# EAGLE library part TC4469 (library ads4)
Microchip TC4469 Logic-Input CMOS Quad Driver
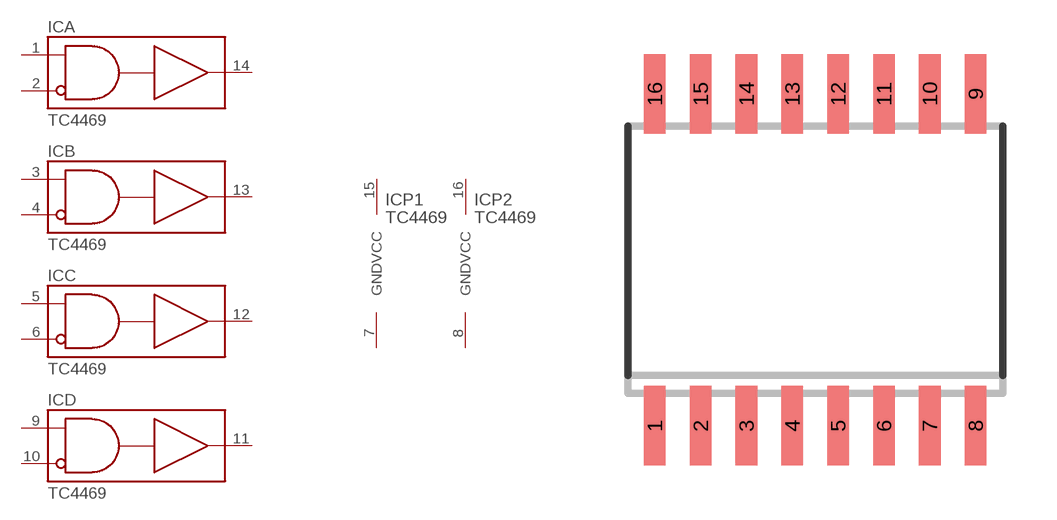
[diagram p81: symbol with the pads of SO16W; footprint SO16W]

Designator prefix IC; gates A=TC4469 B=TC4469 C=TC4469 D=TC4469 P1=POWER2 P2=POWER2

## TC4469OE  [SO16W]
1  A:A  pas
2  A:B  pas
3  B:A  pas
4  B:B  pas
5  C:A  pas
6  C:B  pas
7  P1:GND  pwr
8  P2:GND  pwr
9  D:A  pas
10  D:B  pas
11  D:Y  pas
12  C:Y  pas
13  B:Y  pas
14  A:Y  pas
15  P1:VCC  pwr
16  P2:VCC  pwr

## Footprint SO16W (pad centres in mm)
SMALL OUTLINE INTEGRATED CIRCUIT wide body 7.5 mm/JEDEC MS-013AA
smd 0.6 x 2.2: 1 -4.445,-4.6; 2 -3.175,-4.6; 3 -1.905,-4.6; 4 -0.635,-4.6; 5 0.635,-4.6; 6 1.905,-4.6; 7 3.175,-4.6; 8 4.445,-4.6; 9 4.445,4.6; 10 3.175,4.6; 11 1.905,4.6; 12 0.635,4.6; 13 -0.635,4.6; 14 -1.905,4.6; 15 -3.175,4.6; 16 -4.445,4.6